# Altium footprint library Connectors.PcbLib: 18 footprints (part 1 of 2)
Each footprint in its own frame and in the unit in brackets; x right, y up, seen from the top. Pads: shape width x height; smd on the part's side, far side on the other; paste and mask are expansions set on the pad; w line width, h text height; cw(c..) or ccw(c..) is an arc to the next point about the centre after c.
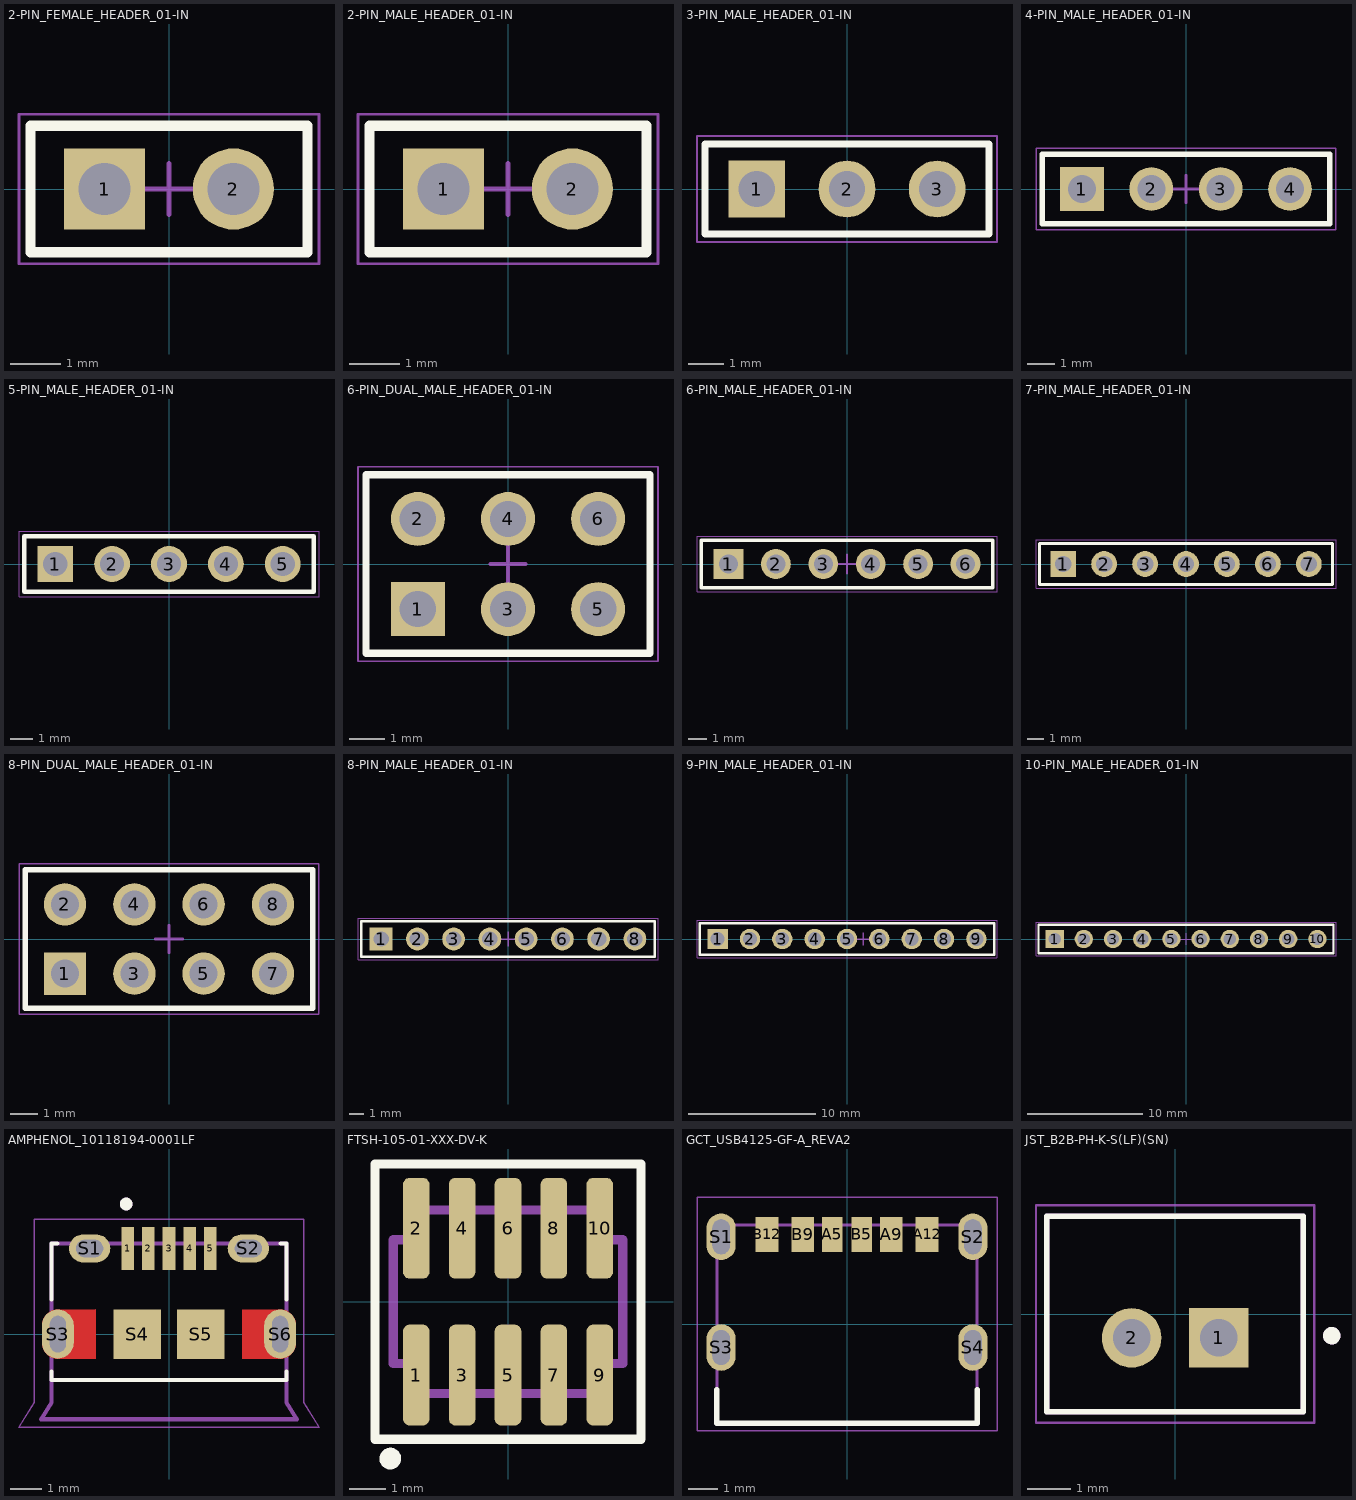
[diagram p0: the footprints below, top view; thin cyan lines are the x and y axes]

## 2-PIN_FEMALE_HEADER_01-IN [mm] "Terminal Assembly, 1x2 Pins, Vertical, 2.54mm Pitch, Male"
height 6.02
pads (2):
  rect 1.6x1.6 hole 1.02: 1(-1.27,0)
  round 1.6 hole 1.02: 2(1.27,0)
Top Overlay:
  lines w0.2: -2.73,-1.245 -2.73,1.245 2.73,1.245 2.73,-1.245 -2.73,-1.245
Mechanical 13:
  lines w0.1: -2.73,1.245 -2.73,-1.245 2.73,-1.245 2.73,1.245 -2.73,1.245
  text ".Designator" at -1.524,-0.635 h1.3
Mechanical 15:
  lines w0.05: -2.955,-1.47 -2.955,1.47 2.955,1.47 2.955,-1.47 -2.955,-1.47
  lines w0.1: -0.5,0 0.5,0 ; 0,-0.5 0,0.5
3D body "female_header_a-bl254-eg-g02d.STEP": height 8.53, standoff -3.17, extent -2.665,-1.25 2.665,1.25

## 2-PIN_MALE_HEADER_01-IN [mm] "Terminal Assembly, 1x2 Pins, Vertical, 2.54mm Pitch, Male"
height 6.02
pads (2):
  rect 1.6x1.6 hole 1.02: 1(-1.27,0)
  round 1.6 hole 1.02: 2(1.27,0)
Top Overlay:
  lines w0.2: -2.73,-1.245 -2.73,1.245 2.73,1.245 2.73,-1.245 -2.73,-1.245
Mechanical 13:
  lines w0.1: -2.73,1.245 -2.73,-1.245 2.73,-1.245 2.73,1.245 -2.73,1.245
  text ".Designator" at -1.524,-0.635 h1.3
Mechanical 15:
  lines w0.05: -2.955,-1.47 -2.955,1.47 2.955,1.47 2.955,-1.47 -2.955,-1.47
  lines w0.1: -0.5,0 0.5,0 ; 0,-0.5 0,0.5
3D body "User Library-Header_Male_2Pin.STEP": height 8.54, standoff -3, extent -2.54,-1.22 2.54,1.27

## 3-PIN_MALE_HEADER_01-IN [mm] ".025 SQ Post Terminal Strip Assembly, 1x3 Pins, Vertical, 2.54mm Pitch, Male"
height 8.58
pads (3):
  rect 1.6x1.6 hole 1.02: 1(-2.54,0)
  round 1.6 hole 1.02: 2(0,0) 3(2.54,0)
Top Overlay:
  lines w0.2: -4,-1.27 4,-1.27 4,1.27 -4,1.27 -4,-1.27
Mechanical 13:
  lines w0.1: -4,-1.27 4,-1.27 4,1.27 -4,1.27 -4,-1.27
  text ".Designator" at -1.524,-0.635 h1.3
Mechanical 15:
  lines w0.05: -4.225,-1.495 4.225,-1.495 4.225,1.495 -4.225,1.495 -4.225,-1.495
  lines w0.1: -0.5,0 0.5,0 ; 0,-0.5 0,0.5
3D body "User Library-Header_Male_3Pin.STEP": height 8.54, standoff -3, extent -3.81,-1.27 3.81,1.22

## 4-PIN_MALE_HEADER_01-IN [mm] "Assembly .025\" [.64] SQ Post Terminal Strip, 1x4 Pins, Vertical, 2.54mm Pitch, Male"
height 7.061
pads (4):
  rect 1.6x1.6 hole 1.02: 1(-3.81,0)
  round 1.6 hole 1.02: 2(-1.27,0) 3(1.27,0) 4(3.81,0)
Top Overlay:
  lines w0.2: -5.27,-1.27 5.27,-1.27 5.27,1.27 -5.27,1.27 -5.27,-1.27
Mechanical 13:
  lines w0.1: -5.27,-1.27 5.27,-1.27 5.27,1.27 -5.27,1.27 -5.27,-1.27
  text ".Designator" at -1.524,-0.635 h1.3
Mechanical 15:
  lines w0.05: -5.495,-1.495 5.495,-1.495 5.495,1.495 -5.495,1.495 -5.495,-1.495
  lines w0.1: -0.5,0 0.5,0 ; 0,-0.5 0,0.5
3D body "User Library-Header_Male_4Pin.STEP": height 8.54, standoff -3, extent -5.08,-1.27 5.08,1.22

## 5-PIN_MALE_HEADER_01-IN [mm] "Press Fit Socket Assembly, 1x5 Pins, Vertical, 2.54mm Pitch, Male"
height 10.92
pads (5):
  rect 1.6x1.6 hole 1.081: 1(-5.08,0)
  round 1.6 hole 1.081: 2(-2.54,0) 3(0,0) 4(2.54,0) 5(5.08,0)
Top Overlay:
  lines w0.2: -6.475,-1.245 -6.475,1.245 6.475,1.245 6.475,-1.245 -6.475,-1.245
Mechanical 13:
  lines w0.1: -6.475,-1.245 -6.475,1.245 6.475,1.245 6.475,-1.245 -6.475,-1.245
  text ".Designator" at -1.524,-0.635 h1.3
Mechanical 15:
  lines w0.05: -6.7,-1.47 -6.7,1.47 6.7,1.47 6.7,-1.47 -6.7,-1.47
  lines w0.1: -0.5,0 0.5,0 ; 0,-0.5 0,0.5
3D body "User Library-Header_Male_5Pin.STEP": height 8.54, standoff -3, extent -6.35,-1.27 6.35,1.22

## 6-PIN_DUAL_MALE_HEADER_01-IN [mm] "Terminal Assembly, 2x3 Pins, Vertical, 2.54mm Pitch, Male"
height 6.223
pads (6):
  rect 1.52x1.52 hole 1.02: 1(-2.54,-1.27)
  round 1.52 hole 1.02: 2(-2.54,1.27) 3(0,-1.27) 4(0,1.27) 5(2.54,-1.27) 6(2.54,1.27)
Top Overlay:
  lines w0.2: -4,-2.515 4,-2.515 4,2.515 -4,2.515 -4,-2.515
Mechanical 13:
  lines w0.1: -4,-2.515 -4,2.515 4,2.515 4,-2.515 -4,-2.515
  text ".Designator" at -1.524,-0.635 h1.3
Mechanical 15:
  lines w0.05: -4.225,-2.74 -4.225,2.74 4.225,2.74 4.225,-2.74 -4.225,-2.74
  lines w0.1: -0.5,0 0.5,0 ; 0,-0.5 0,0.5
3D body "pin_header_awl254-dg-g06d.stp": height 8.5, standoff -3, extent -3.81,-2.54 3.81,2.54

## 6-PIN_MALE_HEADER_01-IN [mm] "Assembly .025\" [.64] SQ Post Terminal Strip, 1x6 Pins, Vertical, 2.54mm Pitch, Male"
height 16.459
pads (6):
  rect 1.6x1.6 hole 1.02: 1(-6.35,0)
  round 1.6 hole 1.02: 2(-3.81,0) 3(-1.27,0) 4(1.27,0) 5(3.81,0) 6(6.35,0)
Top Overlay:
  lines w0.2: -7.81,-1.27 -7.81,1.27 7.81,1.27 7.81,-1.27 -7.81,-1.27
Mechanical 13:
  lines w0.1: -7.81,-1.27 -7.81,1.27 7.81,1.27 7.81,-1.27 -7.81,-1.27
  text ".Designator" at -1.524,-0.635 h1.3
Mechanical 15:
  lines w0.05: -8.035,-1.495 -8.035,1.495 8.035,1.495 8.035,-1.495 -8.035,-1.495
  lines w0.1: -0.5,0 0.5,0 ; 0,-0.5 0,0.5
3D body "User Library-Header_Male_6Pin.STEP": height 8.54, standoff -3, extent -7.62,-1.27 7.62,1.22

## 7-PIN_MALE_HEADER_01-IN [mm] ".025 SQ Post Terminal Strip Assembly, 1x7 Pins, Vertical, 2.54mm Pitch, Male"
height 5.41
pads (7):
  rect 1.6x1.6 hole 1.02: 1(-7.62,0)
  round 1.6 hole 1.02: 2(-5.08,0) 3(-2.54,0) 4(0,0) 5(2.54,0) 6(5.08,0) 7(7.62,0)
Top Overlay:
  lines w0.2: -9.08,-1.27 -9.08,1.27 9.08,1.27 9.08,-1.27 -9.08,-1.27
Mechanical 13:
  lines w0.1: -9.08,-1.27 -9.08,1.27 9.08,1.27 9.08,-1.27 -9.08,-1.27
  text ".Designator" at -1.524,-0.635 h1.3
Mechanical 15:
  lines w0.05: -9.305,-1.495 -9.305,1.495 9.305,1.495 9.305,-1.495 -9.305,-1.495
  lines w0.1: -0.5,0 0.5,0 ; 0,-0.5 0,0.5
3D body "User Library-Header_Male_7Pin.STEP": height 8.54, standoff -3, extent -8.89,-1.27 8.89,1.22

## 8-PIN_DUAL_MALE_HEADER_01-IN [mm] "Assembly .025\" [.64] SQ Post Terminal Strip, 2x4 Pins, Vertical, 2.54mm Pitch, Male"
height 2.896
pads (8):
  rect 1.55x1.55 hole 1.02: 1(-3.81,-1.27)
  round 1.55 hole 1.02: 2(-3.81,1.27) 3(-1.27,-1.27) 4(-1.27,1.27) 5(1.27,-1.27) 6(1.27,1.27) 7(3.81,-1.27) 8(3.81,1.27)
Top Overlay:
  lines w0.2: -5.27,-2.54 -5.27,2.54 5.27,2.54 5.27,-2.54 -5.27,-2.54
Mechanical 13:
  lines w0.1: -5.27,-2.54 -5.27,2.54 5.27,2.54 5.27,-2.54 -5.27,-2.54
  text ".Designator" at -1.524,-0.635 h1.3
Mechanical 15:
  lines w0.05: -5.495,-2.765 -5.495,2.765 5.495,2.765 5.495,-2.765 -5.495,-2.765
  lines w0.1: -0.5,0 0.5,0 ; 0,-0.5 0,0.5
3D body "pin_header_awl254-dg-g08d.stp": height 8.5, standoff -3, extent -5.08,-2.54 5.08,2.54

## 8-PIN_MALE_HEADER_01-IN [mm] "Press Fit Socket Assembly, 1x8 Pins, Vertical, 2.54mm Pitch, Male"
height 10.92
pads (8):
  rect 1.6x1.6 hole 1.081: 1(-8.89,0)
  round 1.6 hole 1.081: 2(-6.35,0) 3(-3.81,0) 4(-1.27,0) 5(1.27,0) 6(3.81,0) 7(6.35,0) 8(8.89,0)
Top Overlay:
  lines w0.2: -10.285,-1.245 10.285,-1.245 10.285,1.245 -10.285,1.245 -10.285,-1.245
Mechanical 13:
  lines w0.1: -10.285,-1.245 10.285,-1.245 10.285,1.245 -10.285,1.245 -10.285,-1.245
  text ".Designator" at -1.524,-0.635 h1.3
Mechanical 15:
  lines w0.05: -10.51,-1.47 10.51,-1.47 10.51,1.47 -10.51,1.47 -10.51,-1.47
  lines w0.1: -0.5,0 0.5,0 ; 0,-0.5 0,0.5
3D body "User Library-Header_Male_8Pin.STEP": height 8.54, standoff -3, extent -10.16,-1.27 10.16,1.22

## 9-PIN_MALE_HEADER_01-IN [mm] "Press Fit Socket Assembly, 1x10 Pins, Vertical, 2.54mm Pitch, Male"
height 16
pads (9):
  rect 1.6x1.6 hole 1.081: 1(-10.16,0)
  round 1.6 hole 1.081: 2(-7.62,0) 3(-5.08,0) 4(-2.54,0) 5(0,0) 6(2.54,0) 7(5.08,0) 8(7.62,0) 9(10.16,0)
Top Overlay:
  lines w0.2: -11.555,-1.245 -11.555,1.245 11.555,1.245 11.555,-1.245 -11.555,-1.245
Mechanical 13:
  lines w0.1: -11.555,-1.245 -11.555,1.245 11.555,1.245 11.555,-1.245 -11.555,-1.245
  text ".Designator" at -0.254,-0.635 h1.3
Mechanical 15:
  lines w0.05: -11.78,-1.47 -11.78,1.47 11.78,1.47 11.78,-1.47 -11.78,-1.47
  lines w0.1: 0.77,0 1.77,0 ; 1.27,-0.5 1.27,0.5
3D body "User Library-Header_Male_9Pin.STEP": height 8.54, standoff -3, extent -11.43,-1.27 11.43,1.22

## 10-PIN_MALE_HEADER_01-IN [mm] "Press Fit Socket Assembly, 1x10 Pins, Vertical, 2.54mm Pitch, Male"
height 16
pads (10):
  rect 1.6x1.6 hole 1.081: 1(-11.43,0)
  round 1.6 hole 1.081: 2(-8.89,0) 3(-6.35,0) 4(-3.81,0) 5(-1.27,0) 6(1.27,0) 7(3.81,0) 8(6.35,0) 9(8.89,0) 10(11.43,0)
Top Overlay:
  lines w0.2: -12.825,-1.245 12.825,-1.245 12.825,1.245 -12.825,1.245 -12.825,-1.245
Mechanical 13:
  lines w0.1: -12.825,-1.245 12.825,-1.245 12.825,1.245 -12.825,1.245 -12.825,-1.245
  text ".Designator" at -1.524,-0.635 h1.3
Mechanical 15:
  lines w0.05: -13.05,-1.47 13.05,-1.47 13.05,1.47 -13.05,1.47 -13.05,-1.47
  lines w0.1: -0.5,0 0.5,0 ; 0,-0.5 0,0.5
3D body "User Library-Header_Male_10Pin.STEP": height 8.54, standoff -3, extent -12.7,-1.27 12.7,1.22

## AMPHENOL_10118194-0001LF [mm]
pads (11):
  rect 0.4x1.35 smd mask+0.051: 1(-1.3,2.7) 2(-0.65,2.7) 3(0,2.7) 4(0.65,2.7) 5(1.3,2.7)
  oval 1.3x0.889 hole 0.55 slot 0.85 at 0 deg mask+0.102: S1(-2.5,2.7) S2(2.5,2.7)
  oval 1.003x1.55 hole 0.5 slot 1.15 at 90 deg: S3(-3.5,0) S6(3.5,0)
  rect 1.5x1.55 smd: S4(-1,0) S5(1,0)
Top Layer:
  region: 192 vertices and 0 holes, not listed, extent 2.3,-0.78 4,0.775
  region: 192 vertices and 0 holes, not listed, extent -4,-0.775 -2.3,0.78
Top Overlay:
  circle w0.2: c-1.35,4.1 r0.1
  lines w0.127: -3.7,-1.18 -3.7,-1.45 3.7,-1.45 3.7,-1.18 ; -3.7,1.095 -3.7,2.85 -3.52,2.85 ; 3.52,2.85 3.7,2.85 3.7,1.095
Top Paste:
  drawing of 6 lines, arcs and shapes, not listed
Top Solder:
  region: 3.626,0.874 3.652,0.872 3.678,0.869 3.704,0.864 3.729,0.858 3.755,0.851 3.779,0.842 3.803,0.832 3.827,0.821 3.85,0.808 3.872,0.794 3.894,0.78 3.915,0.764 3.935,0.747 3.954,0.729 3.972,0.71 3.989,0.69 4.005,0.669 4.019,0.647 4.033,0.625 4.046,0.602 4.057,0.578 4.067,0.554 4.076,0.53 4.083,0.504 4.089,0.479 4.094,0.453 4.097,0.427 4.099,0.401 4.1,0.375 4.1,-0.375 4.099,-0.401 4.097,-0.427 4.094,-0.453 4.089,-0.479 4.083,-0.504 4.076,-0.53 4.067,-0.554 4.057,-0.578 4.046,-0.602 4.033,-0.625 4.019,-0.647 4.005,-0.669 3.989,-0.69 3.972,-0.71 3.954,-0.729 3.935,-0.747 3.915,-0.764 3.894,-0.78 3.872,-0.794 3.85,-0.808 3.827,-0.821 3.803,-0.832 3.779,-0.842 3.755,-0.851 3.729,-0.858 3.704,-0.864 3.678,-0.869 3.652,-0.872 3.626,-0.874 3.6,-0.875 2.2,-0.875 2.2,0.875 3.6,0.875
  region: -2.2,-0.875 -3.6,-0.875 -3.626,-0.874 -3.652,-0.872 -3.678,-0.869 -3.704,-0.864 -3.729,-0.858 -3.755,-0.851 -3.779,-0.842 -3.803,-0.832 -3.827,-0.821 -3.85,-0.808 -3.872,-0.794 -3.894,-0.78 -3.915,-0.764 -3.935,-0.747 -3.954,-0.729 -3.972,-0.71 -3.989,-0.69 -4.005,-0.669 -4.019,-0.647 -4.033,-0.625 -4.046,-0.602 -4.057,-0.578 -4.067,-0.554 -4.076,-0.53 -4.083,-0.504 -4.089,-0.479 -4.094,-0.453 -4.097,-0.427 -4.099,-0.401 -4.1,-0.375 -4.1,0.375 -4.099,0.401 -4.097,0.427 -4.094,0.453 -4.089,0.479 -4.083,0.504 -4.076,0.53 -4.067,0.554 -4.057,0.578 -4.046,0.602 -4.033,0.625 -4.019,0.647 -4.005,0.669 -3.989,0.69 -3.972,0.71 -3.954,0.729 -3.935,0.747 -3.915,0.764 -3.894,0.78 -3.872,0.794 -3.85,0.808 -3.827,0.821 -3.803,0.832 -3.779,0.842 -3.755,0.851 -3.729,0.858 -3.704,0.864 -3.678,0.869 -3.652,0.872 -3.626,0.874 -3.6,0.875 -2.2,0.875
Mechanical 13:
  circle w0.2: c-1.35,4.1 r0.1
  lines w0.127: -3.7,-1.45 -3.7,-2.15 -4.025,-2.68 4.025,-2.68 3.7,-2.15 3.7,-1.45 ; -3.7,-1.45 -3.7,2.85 3.7,2.85 3.7,-1.45 ; -3.7,-1.45 3.7,-1.45
  text ".Designator" at -3.187,1.219 h0.5
  text "PCB END" at -1.95,-2.1 h0.5
Mechanical 15:
  lines w0.05: -4.725,-2.93 -4.25,-2.15 -4.25,3.625 4.25,3.625 4.25,-2.15 4.725,-2.93 -4.725,-2.93
3D body "10118194-0001LF--3DModel-STEP-533217COLOR.STEP": height 2.69, standoff -0.58, extent -4.025,-2.667 4.025,2.913

## FTSH-105-01-XXX-DV-K [mil]
pads (10):
  rrect50% 29x110 smd mask+2: 1(-100,-80) 2(-100,80) 3(-50,-80) 4(-50,80) 5(0,-80) 6(0,80) 7(50,-80) 8(50,80) 9(100,-80) 10(100,80)
Top Overlay:
  lines w10: -145,-150 145,-150 145,150 -145,150 -145,-150
  lines w11.81: -122.39,-171.52 cw(c-128.27,-171.01) -122.37,-171.01
Mechanical 1:
  lines w10: -125,-67.5 -100,-67.5 -100,-100 100,-100 100,-67.5 125,-67.5 125,67.5 100,67.5 100,100 -100,100 -100,67.5 -125,67.5 -125,-67.5
  text ".Designator" at -97.68,-8.48 h19.68
3D body "FTSH-105-01-LM-DV-K.stp": height 240.75, standoff -0.25, extent -124.99,-114.99 125,115

## GCT_USB4125-GF-A_REVA2 [mm]
pads (10):
  rect 0.7x1.2 smd mask+0.051: A5(-0.5,3.08) B5(0.5,3.08)
  rect 0.76x1.2 smd mask+0.051: A9(1.52,3.08) B9(-1.52,3.08)
  rect 0.8x1.2 smd mask+0.051: A12(2.75,3.08) B12(-2.75,3.08)
  oval 1x1.6 hole 0.6 slot 1.2 at 90 deg mask+0: S1(-4.32,3) S2(4.32,3) S3(-4.32,-0.8) S4(4.32,-0.8)
Top Overlay:
  lines w0.2: -4.47,-2.25 -4.47,-3.4 4.47,-3.4 4.47,-2.25
Top Solder:
  drawing of 4 lines, arcs and shapes, not listed
Bottom Solder:
  drawing of 4 lines, arcs and shapes, not listed
Mechanical 1:
  text ".Designator" at -3.322,-2.363 h0.5
Mechanical 13:
  lines w0.1: -4.47,-3.4 -4.47,3.4 4.47,3.4 4.47,-3.4 -4.47,-3.4
Mechanical 15:
  lines w0.05: -5.15,-3.65 -5.15,4.35 5.15,4.35 5.15,-3.65 -5.15,-3.65
3D body "USB4125-GF-A--3DModel-STEP-56544.STEP": height 3.26, standoff -1.25, extent -4.47,-3.45 4.47,3.45

## JST_B2B-PH-K-S(LF)(SN) [mm]
pads (2):
  rect 1.368x1.368 / inner round 1.368 / far side rect 1.368x1.368 hole 0.86: 1(1,-0.55)
  round 1.368 hole 0.86: 2(-1,-0.55)
Top Overlay:
  circle w0.2: c3.6,-0.5 r0.1
  lines w0.127: -2.95,-2.25 2.95,-2.25 2.95,2.25 -2.95,2.25 -2.95,-2.25
Mechanical 1:
  text ".Designator" at -2.433,1.066 h0.5
Mechanical 13:
  circle w0.2: c3.6,-0.5 r0.1
  lines w0.127: -2.95,-2.25 -2.95,2.25 2.95,2.25 2.95,-2.25 -2.95,-2.25
Mechanical 15:
  lines w0.05: -3.2,-2.5 -3.2,2.5 3.2,2.5 3.2,-2.5 -3.2,-2.5
3D body "B2B-PH-K-S(LF)(SN)--3DModel-STEP-56544.STEP": height 6.05, standoff -3.35, extent -2.95,-2.25 2.95,2.25